# Altium footprint library BMP581.PcbLib: 3 footprints
Each footprint in its own frame and in the unit in brackets; x right, y up, seen from the top. Pads: shape width x height; smd on the part's side, far side on the other; paste and mask are expansions set on the pad; w line width, h text height; cw(c..) or ccw(c..) is an arc to the next point about the centre after c.
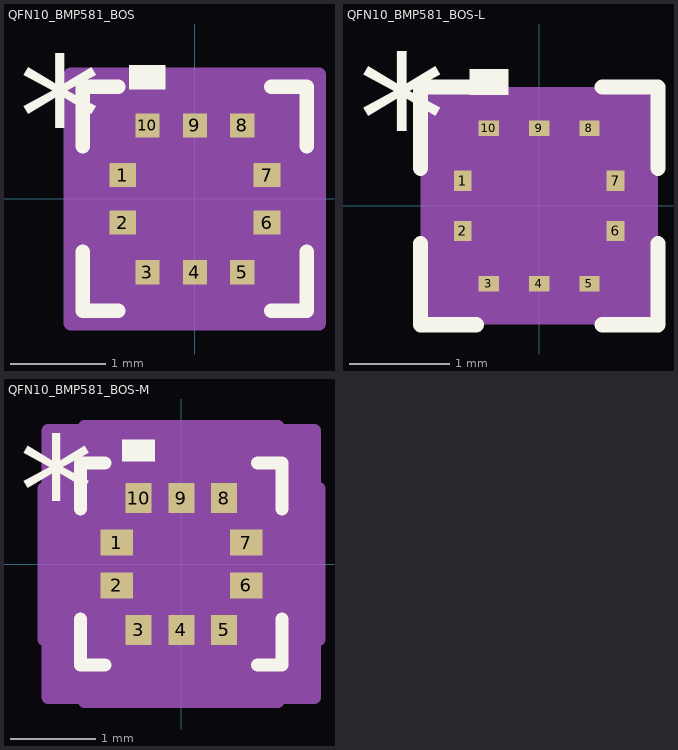
[diagram p0: the footprints below, top view; thin cyan lines are the x and y axes]

## QFN10_BMP581_BOS [mil]
pads (10):
  rect 11x10 smd paste+0 mask+0: 1(-29.93,9.84) 2(-29.93,-9.84) 6(29.93,-9.84) 7(29.93,9.84)
  rect 10x10 smd paste+0 mask+0: 3(-19.68,-30.43) 4(0,-30.43) 5(19.68,-30.43) 8(19.68,30.43) 9(0,30.43) 10(-19.68,30.43)
Top Overlay:
  region: -12.19,45.43 -27.18,45.43 -27.18,55.43 -12.19,55.43
  lines w6: -46.5,-21.85 -46.5,-46.5 -31.69,-46.5 ; -46.5,21.85 -46.5,46.5 -31.69,46.5 ; 31.69,-46.5 46.5,-46.5 46.5,-21.85 ; 31.69,46.5 46.5,46.5 46.5,21.85
  text "*" at -72.93,9.69 h50
  text ".Designator" at -137.5,-25 h50
Mechanical 13:
  lines w1: -41.5,-8.5 8.5,41.5 ; -41.5,-41.5 41.5,-41.5 41.5,41.5 -41.5,41.5 -41.5,-41.5
  text ".Designator" at -137.5,-25 h50
  text "*" at -36.93,9.69 h50
Mechanical 15:
  region: -34.69,-51.5 -51.5,-51.5 -51.5,-24.84 -51.5,24.84 -51.5,51.5 -34.69,51.5 34.69,51.5 51.5,51.5 51.5,24.84 51.5,-24.84 51.5,-51.5 34.69,-51.5
  lines w6: -51.5,-24.84 -51.5,-51.5 -34.69,-51.5 ; -51.5,-24.84 -51.5,-24.84 ; -51.5,-24.84 -51.5,24.84 ; -51.5,24.84 -51.5,24.84 ; -51.5,24.84 -51.5,51.5 -34.69,51.5 ; -34.69,-51.5 -34.69,-51.5 ; -34.69,-51.5 34.69,-51.5 ; -34.69,51.5 -34.69,51.5 ; -34.69,51.5 34.69,51.5 ; 34.69,-51.5 34.69,-51.5 ; 34.69,-51.5 51.5,-51.5 51.5,-24.84 ; 34.69,51.5 34.69,51.5 ; 34.69,51.5 51.5,51.5 51.5,24.84 ; 51.5,-24.84 51.5,-24.84 ; 51.5,-24.84 51.5,24.84 ; 51.5,24.84 51.5,24.84
3D body "QFN10_BMP581_BOS.step": height 32.09, standoff 0, extent -41.5,-41.5 41.5,41.5

## QFN10_BMP581_BOS-L [mil]
pads (10):
  rect 7x8 smd paste+0 mask+0: 1(-29.93,9.84) 2(-29.93,-9.84) 6(29.93,-9.84) 7(29.93,9.84)
  rect 8x6 smd paste+0 mask+0: 3(-19.68,-30.43) 4(0,-30.43) 5(19.68,-30.43) 8(19.68,30.43) 9(0,30.43) 10(-19.68,30.43)
Top Overlay:
  region: -12.19,43.43 -27.18,43.43 -27.18,53.43 -12.19,53.43
  lines w6: -46.5,-14.77 -46.5,-46.5 -24.62,-46.5 ; -46.5,14.77 -46.5,46.5 -24.62,46.5 ; 24.62,-46.5 46.5,-46.5 46.5,-14.77 ; 24.62,46.5 46.5,46.5 46.5,14.77
  text "*" at -70.93,9.69 h50
  text ".Designator" at -137.5,-25 h50
Mechanical 13:
  lines w1: -41.5,-8.5 8.5,41.5 ; -41.5,-41.5 41.5,-41.5 41.5,41.5 -41.5,41.5 -41.5,-41.5
  text ".Designator" at -137.5,-25 h50
  text "*" at -38.93,9.69 h50
Mechanical 15:
  region: -28.68,-45.5 -45.5,-45.5 -45.5,-18.84 -43.5,-18.84 -43.5,18.84 -45.5,18.84 -45.5,45.5 -28.68,45.5 -28.68,43.5 28.68,43.5 28.68,45.5 45.5,45.5 45.5,18.84 43.5,18.84 43.5,-18.84 45.5,-18.84 45.5,-45.5 28.68,-45.5 28.68,-43.5 -28.68,-43.5
  lines w6: -45.5,-45.5 -45.5,-18.84 -43.5,-18.84 -43.5,18.84 -45.5,18.84 -45.5,45.5 -28.68,45.5 -28.68,43.5 28.68,43.5 28.68,45.5 45.5,45.5 45.5,18.84 43.5,18.84 43.5,-18.84 45.5,-18.84 45.5,-45.5 28.68,-45.5 28.68,-43.5 -28.68,-43.5 -28.68,-45.5 -45.5,-45.5
3D body "QFN10_BMP581_BOS.step": height 32.09, standoff 0, extent -41.5,-41.5 41.5,41.5

## QFN10_BMP581_BOS-M [mil]
pads (10):
  rect 15x12 smd paste+0 mask+0: 1(-29.93,9.84) 2(-29.93,-9.84) 6(29.93,-9.84) 7(29.93,9.84)
  rect 12x14 smd paste+0 mask+0: 3(-19.68,-30.43) 4(0,-30.43) 5(19.68,-30.43) 8(19.68,30.43) 9(0,30.43) 10(-19.68,30.43)
Top Overlay:
  region: -12.19,47.43 -27.18,47.43 -27.18,57.43 -12.19,57.43
  lines w6: -46.5,-25.3 -46.5,-46.5 -35.14,-46.5 ; -46.5,25.3 -46.5,46.5 -35.14,46.5 ; 35.14,-46.5 46.5,-46.5 46.5,-25.3 ; 35.14,46.5 46.5,46.5 46.5,25.3
  text "*" at -74.93,9.69 h50
  text ".Designator" at -137.5,-25 h50
Mechanical 13:
  lines w1: -41.5,-8.5 8.5,41.5 ; -41.5,-41.5 41.5,-41.5 41.5,41.5 -41.5,41.5 -41.5,-41.5
  text ".Designator" at -137.5,-25 h50
  text "*" at -34.93,9.69 h50
Mechanical 15:
  region: -44.69,-61.5 -61.5,-61.5 -61.5,-34.84 -63.5,-34.84 -63.5,34.84 -61.5,34.84 -61.5,61.5 -44.69,61.5 -44.69,63.5 44.69,63.5 44.69,61.5 61.5,61.5 61.5,34.84 63.5,34.84 63.5,-34.84 61.5,-34.84 61.5,-61.5 44.69,-61.5 44.69,-63.5 -44.69,-63.5
  lines w6: -63.5,-34.84 -61.5,-34.84 -61.5,-61.5 -44.69,-61.5 -44.69,-63.5 44.69,-63.5 44.69,-61.5 61.5,-61.5 61.5,-34.84 63.5,-34.84 63.5,34.84 61.5,34.84 61.5,61.5 44.69,61.5 44.69,63.5 -44.69,63.5 -44.69,61.5 -61.5,61.5 -61.5,34.84 -63.5,34.84 -63.5,-34.84
3D body "QFN10_BMP581_BOS.step": height 32.09, standoff 0, extent -41.5,-41.5 41.5,41.5